# Altium footprint library 接线端子封装库.PcbLib: 73 footprints (part 1 of 5)
Each footprint in its own frame and in the unit in brackets; x right, y up, seen from the top. Pads: shape width x height; smd on the part's side, far side on the other; paste and mask are expansions set on the pad; w line width, h text height; cw(c..) or ccw(c..) is an arc to the next point about the centre after c.
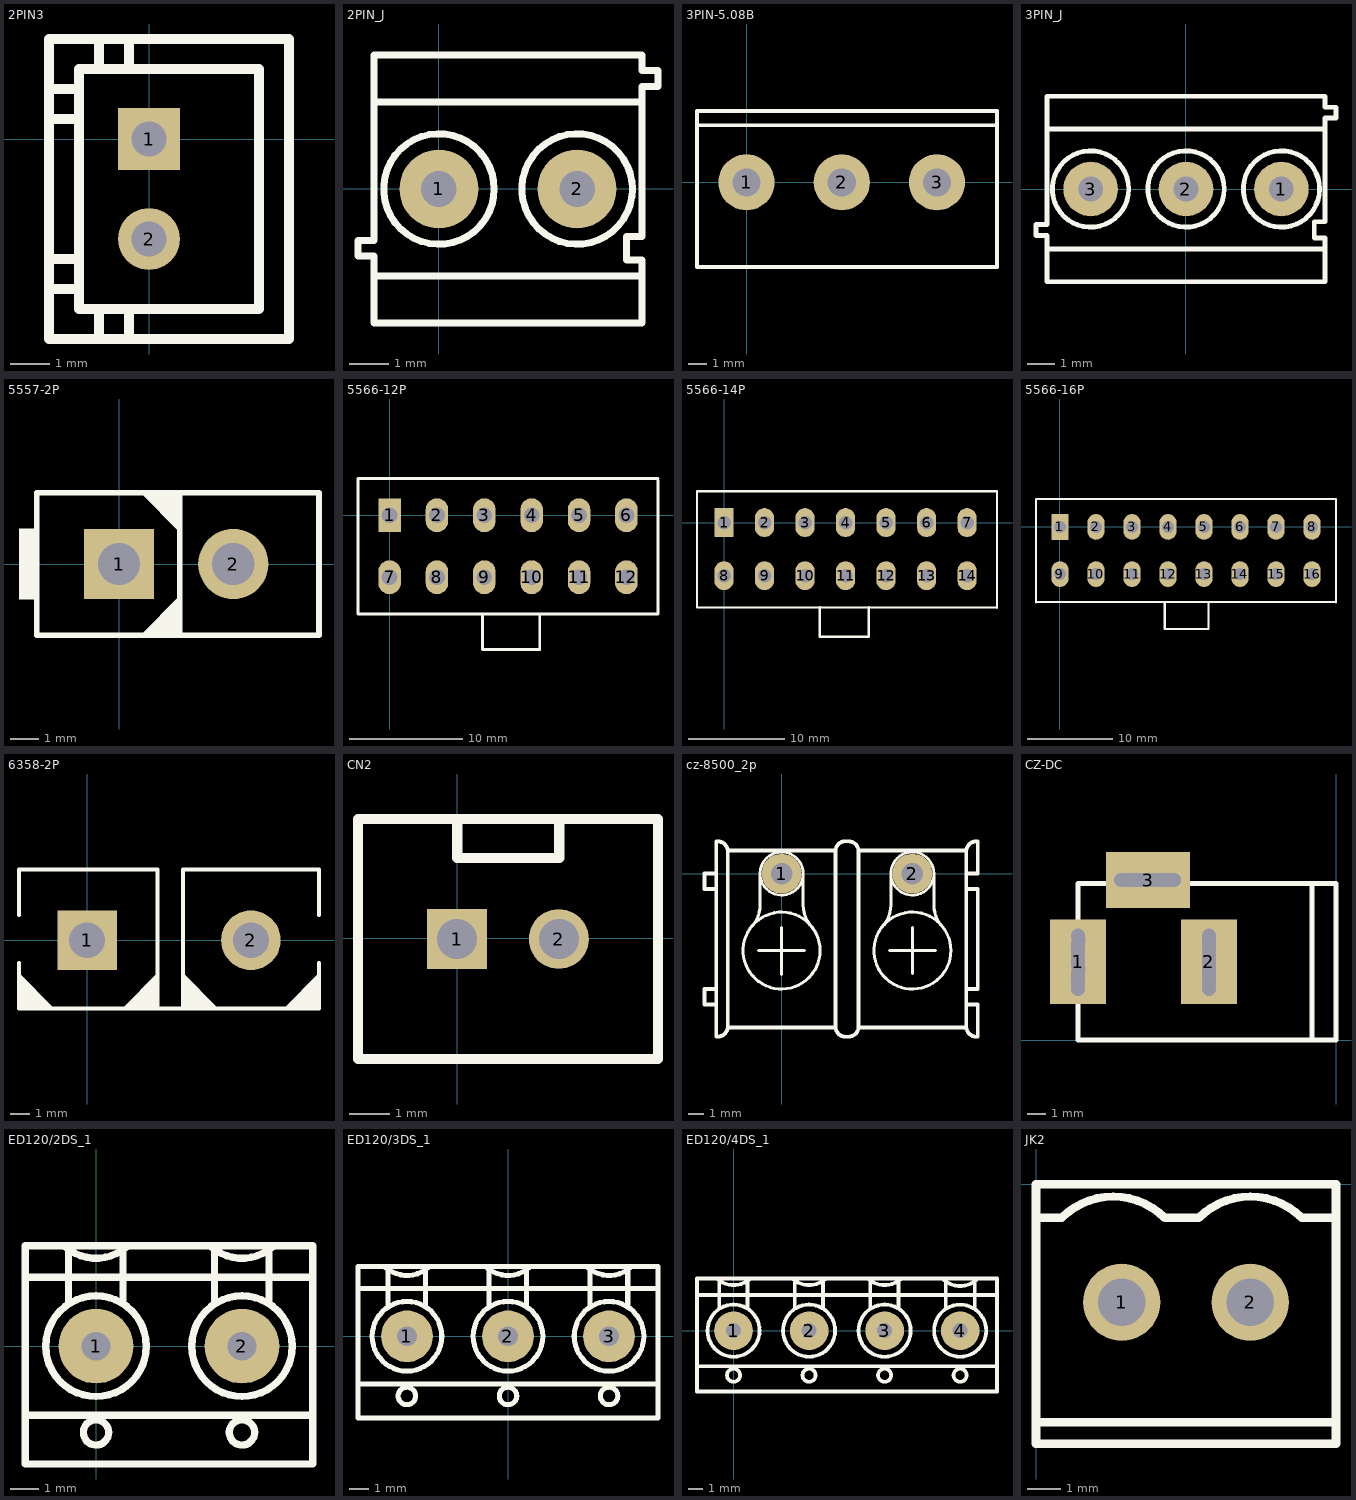
[diagram p0: the footprints below, top view; thin cyan lines are the x and y axes]

## 2PIN3 [mil]
pads (2):
  rect 62x62 hole 35: 1(0,0)
  round 62 hole 35: 2(0,-100)
Top Overlay:
  lines w10: -100,-150 -70,-150 ; -100,-120 -70,-120 ; -100,20 -70,20 ; -100,50 -70,50 ; -50,-200 -50,-170 ; -50,70 -50,100 ; -20,-200 -20,-170 ; -20,70 -20,100 ; -100,-200 -100,100 0,100 140,100 140,-200 -100,-200 ; -70,-170 -70,70 110,70 110,-170 -70,-170

## 2PIN_J [mm]
pads (2):
  round 2 hole 0.9: 1(0,0) 2(3.5,0)
Top Overlay:
  circle w0.178: c3.5,0 r1.4
  circle w0.178: c0,0 r1.4
  lines w0.178: 1.75,-3.4 -1.65,-3.4 ; 5.15,-2.2 -1.65,-2.2 ; 5.15,2.2 -1.65,2.2 ; -1.65,-3.4 -1.65,-2.2 ; -1.65,-3.4 5.15,-3.4 5.15,-1.8 4.75,-1.8 4.75,-1.2 5.15,-1.2 5.15,2.6 5.55,2.6 5.55,3 5.15,3 5.15,3.4 -1.65,3.4 -1.65,2.2 ; -1.65,-2.2 -1.65,-1.7 -2.05,-1.7 -2.05,-1.3 -1.65,-1.3 -1.65,2.2

## 3PIN-5.08B [mm]
pads (3):
  round 3 hole 1.5: 1(0,0) 2(5.08,0) 3(10.16,0)
Top Overlay:
  lines w0.2: -2.616,3.048 13.31,3.048 ; -2.642,-4.521 13.36,-4.521 13.36,3.81 -2.642,3.81 -2.642,-4.521
3D body: height 10, standoff -3, extent -2.466,-4.623 13.134,2.977

## 3PIN_J [mm]
pads (3):
  round 2 hole 0.9: 1(3.5,0) 2(0,0) 3(-3.5,0)
Top Overlay:
  circle w0.178: c3.5,0 r1.4
  circle w0.178: c0,0 r1.4
  circle w0.178: c-3.5,0 r1.4
  lines w0.178: -1.7,-3.4 -5.1,-3.4 ; 5.1,-2.2 -5.1,-2.2 ; 5.1,2.2 -5.1,2.2 ; -5.1,-3.4 -5.1,-2.2 ; -5.1,-3.4 5.1,-3.4 5.1,-1.8 4.7,-1.8 4.7,-1.2 5.1,-1.2 5.1,2.6 5.5,2.6 5.5,3 5.1,3 5.1,3.4 -5.1,3.4 -5.1,2.2 ; -5.1,-2.2 -5.1,-1.7 -5.5,-1.7 -5.5,-1.3 -5.1,-1.3 -5.1,2.2

## 5557-2P [mm] "pin 4.2mm"
pads (2):
  rect 2.5x2.5 hole 1.5: 1(0,0)
  round 2.5 hole 1.5: 2(4.064,0)
Top Overlay:
  rectangle: -3.556,-1.27 -2.921,1.27
  lines w0.2: 0.889,-2.54 2.159,-1.27 ; 0.889,2.54 2.159,1.27 ; 1.016,-2.54 1.143,-2.54 2.159,-1.524 ; 1.143,2.54 2.032,1.651 2.032,1.524 2.159,1.397 ; 1.27,-2.54 2.032,-1.778 ; 1.27,2.54 2.159,1.651 ; 1.524,-2.54 2.159,-1.905 ; 1.524,2.54 2.159,1.905 ; 1.778,-2.54 1.778,-2.413 2.159,-2.032 ; 1.778,2.54 2.159,2.159 ; 1.905,-2.54 1.905,-2.413 2.032,-2.286 ; 1.905,2.413 2.159,2.413 ; 2.032,-2.54 2.032,-2.413 2.159,-2.286 ; 2.159,-2.413 2.159,2.54 ; -2.921,-2.54 -2.921,2.54 7.112,2.54 7.112,-2.54 -2.921,-2.54

## 5566-12P [mm]
pads (12):
  rect 2x3 hole 1.4: 1(0,0)
  oval 2x3 hole 1.4: 2(4.2,0) 3(8.4,0) 4(12.6,0) 5(16.8,0) 6(21,0) 7(0,-5.5) 8(4.2,-5.5) 9(8.4,-5.5) 10(12.6,-5.5) 11(16.8,-5.5) 12(21,-5.5)
Top Overlay:
  lines w0.254: 8.232,-11.894 13.312,-11.894 ; 8.232,-11.846 8.232,-8.846 ; 13.312,-11.846 13.312,-8.846 ; 23.8,3.092 23.8,-8.75 -2.8,-8.75 -2.8,3.25 23.8,3.25
3D body: height 12.8, standoff -3.5, extent -3.059,-8.714 24.141,2.286

## 5566-14P [mm]
pads (14):
  rect 2x3 hole 1.4: 1(0,0)
  oval 2x3 hole 1.4: 2(4.2,0) 3(8.4,0) 4(12.6,0) 5(16.8,0) 6(21,0) 7(25.2,0) 8(0,-5.5) 9(4.2,-5.5) 10(8.4,-5.5) 11(12.6,-5.5) 12(16.8,-5.5) 13(21,-5.5) 14(25.2,-5.5)
Top Overlay:
  lines w0.254: 9.932,-11.836 15.012,-11.836 ; 9.932,-11.788 9.932,-8.788 ; 15.012,-11.788 15.012,-8.788 ; 28.3,-8.82 28.3,3.25 -2.8,3.25 -2.8,-8.804 28.3,-8.804
3D body: height 12.8, standoff -3.5, extent -3.127,-8.763 28.273,2.237

## 5566-16P [mm]
pads (16):
  rect 2x3 hole 1.4: 1(0,0)
  oval 2x3 hole 1.4: 2(4.2,0) 3(8.4,0) 4(12.6,0) 5(16.8,0) 6(21,0) 7(25.2,0) 8(29.4,0) 9(0,-5.5) 10(4.2,-5.5) 11(8.4,-5.5) 12(12.6,-5.5) 13(16.8,-5.5) 14(21,-5.5) 15(25.2,-5.5) 16(29.4,-5.5)
Top Overlay:
  lines w0.254: -2.8,-8.804 -2.8,3.25 32.2,3.25 32.2,-8.82 ; -2.8,-8.75 32.2,-8.75 ; 12.228,-11.894 17.308,-11.894 ; 12.228,-11.846 12.228,-8.846 ; 17.308,-11.846 17.308,-8.846
3D body: height 12.8, standoff -3.5, extent -2.941,-8.587 32.659,2.413

## 6358-2P [mm] "pin 8.4mm"
pads (2):
  rect 3x3 hole 1.8: 1(0,0)
  round 3 hole 1.8: 2(8.255,0)
Top Overlay:
  lines w0.2: -3.429,-3.175 -3.175,-3.429 ; -3.429,-3.048 -3.048,-3.429 ; -3.429,-2.794 -2.794,-3.429 ; -3.429,-2.286 -2.286,-3.429 ; -3.429,-2.032 -2.032,-3.429 ; -3.429,-1.778 -1.778,-3.429 ; -3.429,-1.143 -3.429,-3.429 11.684,-3.429 11.684,-1.143 ; -3.429,1.27 -3.429,3.556 3.556,3.556 3.556,-3.429 ; -3.365,-2.603 -2.54,-3.429 ; 1.905,-3.429 3.556,-1.778 ; 2.159,-3.429 3.556,-2.032 ; 2.413,-3.429 3.556,-2.286 ; 2.73,-3.365 3.556,-2.54 ; 2.921,-3.429 3.556,-2.794 ; 3.175,-3.429 3.556,-3.048 ; 3.302,-3.429 3.556,-3.175 ; 4.826,-3.429 4.826,3.556 ; 4.826,-3.175 5.08,-3.429 ; 4.826,-3.048 5.207,-3.429 ; 4.826,-2.794 5.461,-3.429 ; 4.826,-2.286 5.969,-3.429 ; 4.826,-2.032 6.223,-3.429 ; 4.826,-1.778 6.477,-3.429 ; 4.826,3.429 4.826,3.556 ; 4.889,-2.603 5.715,-3.429 ; 10.033,-3.429 11.684,-1.778 ; 10.287,-3.429 11.684,-2.032 ; 10.541,-3.429 11.684,-2.286 ; 10.858,-3.365 11.684,-2.54 ; 11.049,-3.429 11.684,-2.794 ; 11.303,-3.429 11.684,-3.048 ; 11.43,-3.429 11.684,-3.175 ; 11.684,1.27 11.684,3.556 4.826,3.556

## CN2 [mm]
pads (2):
  rect 1.5x1.5 hole 1: 1(-0.001,-0.018)
  round 1.5 hole 1: 2(2.539,-0.018)
Top Overlay:
  lines w0.254: -0.001,2.882 -0.001,2.007 2.549,2.007 2.549,2.982 ; -2.481,-3.018 -2.481,2.982 5.019,2.982 5.019,-3.018 -2.481,-3.018

## cz-8500_2p [mm]
pads (2):
  round 2.6 hole 1.4: 1(0,0) 2(8.5,0)
Top Overlay:
  circle w0.178: c0,0 r1.4
  circle w0.178: c8.5,0 r1.4
  circle w0.2: c0,-5 r2.5
  circle w0.2: c8.5,-5 r2.5
  lines w0.2: -2,-3.5 ccw(c-3.449,-2.051) -1.4,-2.051 -1.4,0 ; -1.5,-5 1.5,-5 ; 0,-6.55 0,-3.5 ; 1.4,0 1.4,-2.051 ccw(c3.449,-2.051) 2,-3.5 ; 6.5,-3.5 ccw(c5.051,-2.051) 7.1,-2.051 7.1,0 ; 7,-5 10,-5 ; 8.5,-6.5 8.5,-3.5 ; 9.9,0 9.9,-2.051 ccw(c11.949,-2.051) 10.5,-3.5
  lines w0.25: -4.25,-8.5 -5,-8.5 -5,-7.5 -4.25,-7.5 ; -4.25,-1 -5,-1 -5,0 -4.25,0 ; 4.2,2.1 ccw(c4.15,1.45) 3.5,1.5 ; 4.25,2.1 cw(c4.325,1.425) 5,1.5 ; 12,-8.5 12.75,-8.5 12.75,-10.6 cw(c12.675,-9.925) 12,-10 ; 12,-7.5 12.75,-7.5 12.75,-1 12,-1 ; 12,0 12.75,0 12.75,2.1 ccw(c12.675,1.425) 12,1.5 ; -3.5,-10 cw(c-4.175,-9.925) -4.25,-10.6 -4.25,2.1 cw(c-4.175,1.425) -3.5,1.5 ; -3.5,-10 3.5,-10 ; -3.5,-10 -3.5,1.5 ; -3.5,1.5 3.5,1.5 ; 3.5,-10 ccw(c4.175,-9.925) 4.25,-10.6 ccw(c4.325,-9.925) 5,-10 ; 3.5,-10 3.5,1.5 ; 5,-10 12,-10 ; 5,-10 5,1.5 ; 5,1.5 12,1.5 ; 12,-10 12,1.5

## CZ-DC [mil]
pads (47):
  rect 120x180 hole 30: 1(-551.57,167.32) 2(-271.65,167.32)
  rect 180x120 hole 30: 3(-401.97,342.13)
  round 30 hole 30: ""(-551.57,109.45) ""(-551.57,118.5) ""(-551.57,128.74) ""(-551.57,135.83) ""(-551.57,144.88) ""(-551.57,161.02) ""(-551.57,171.65) ""(-551.57,180.71) ""(-551.57,190.94) ""(-551.57,198.03) ""(-551.57,207.09) ""(-551.57,223.23) ""(-551.18,153.54) ""(-551.18,215.75) ""(-459.84,342.52) ""(-450.79,342.52) ""(-440.55,342.52) ""(-433.46,342.52) ""(-424.41,342.52) ""(-415.75,342.13) ""(-408.27,342.52) ""(-397.64,342.52) ""(-388.58,342.52) ""(-378.35,342.52) ""(-371.26,342.52) ""(-362.2,342.52) ""(-353.54,342.13) ""(-346.06,342.52) ""(-272.05,109.45) ""(-272.05,118.5) ""(-272.05,128.74) ""(-272.05,135.83) ""(-272.05,144.88) ""(-272.05,152.36) ""(-272.05,161.02) ""(-272.05,171.65) ""(-272.05,180.71) ""(-272.05,190.94) ""(-272.05,198.03) ""(-272.05,207.09) ""(-272.05,223.23) ""(-271.65,153.54) ""(-271.65,159.06) ""(-271.65,215.75)
Top Overlay:
  lines w10: -51.26,0 -51.26,334.65 ; -551.57,0 -551.57,334.65 0,334.65 0,0 -551.57,0

## ED120/2DS_1 [mm]
pads (2):
  round 2.6 hole 1: 1(0,0) 2(5.08,0)
Top Overlay:
  circle w0.254: c0,0 r1.75
  circle w0.254: c5.08,0 r1.75
  circle w0.254: c0,-3 r0.44
  circle w0.254: c5.08,-3 r0.44
  lines w0.254: -2.46,-2.4 7.54,-2.4 ; -2.46,2.4 7.54,2.4 ; -1.086,3.471 ccw(c0,4.7) 1.074,3.461 ; -0.96,1.5 -0.96,3.5 ; 0.94,1.5 0.94,3.5 ; 3.994,3.471 ccw(c5.08,4.7) 6.154,3.461 ; 4.12,1.5 4.12,3.5 ; 6.02,1.5 6.02,3.5 ; -2.46,-4.1 -2.46,3.5 7.54,3.5 7.54,-4.1 -2.46,-4.1

## ED120/3DS_1 [mm]
pads (3):
  round 2.6 hole 1: 1(-5.085,0) 2(-0.005,0) 3(5.075,0)
Top Overlay:
  circle w0.254: c5.075,-3 r0.44
  circle w0.254: c5.075,0 r1.75
  circle w0.254: c-0.005,-3 r0.44
  circle w0.254: c-5.085,-3 r0.44
  circle w0.254: c-0.005,0 r1.75
  circle w0.254: c-5.085,0 r1.75
  lines w0.254: -7.545,-2.4 7.535,-2.4 ; -7.545,2.4 7.535,2.4 ; -6.171,3.471 ccw(c-5.085,4.7) -4.011,3.461 ; -6.045,1.5 -6.045,3.5 ; -4.145,1.5 -4.145,3.5 ; -1.091,3.471 ccw(c-0.005,4.7) 1.069,3.461 ; -0.965,1.5 -0.965,3.5 ; 0.935,1.5 0.935,3.5 ; 3.989,3.471 ccw(c5.075,4.7) 6.149,3.461 ; 4.115,1.5 4.115,3.5 ; 6.015,1.5 6.015,3.5 ; 7.515,3.5 -7.545,3.5 -7.545,-4.1 7.535,-4.1 7.535,3.5

## ED120/4DS_1 [mm]
pads (4):
  round 2.6 hole 1: 1(0,0) 2(5.08,0) 3(10.16,0) 4(15.24,0)
Top Overlay:
  circle w0.25: c15.24,0 r1.75
  circle w0.254: c0,0 r1.75
  circle w0.254: c5.08,0 r1.75
  circle w0.254: c0,-3 r0.44
  circle w0.254: c5.08,-3 r0.44
  circle w0.254: c10.16,0 r1.75
  circle w0.254: c10.16,-3 r0.44
  circle w0.254: c15.24,-3 r0.44
  lines w0.25: 14.28,1.48 14.28,3.32 ; 16.22,1.47 16.22,3.3
  lines w0.254: -2.46,-2.4 17.72,-2.4 ; -2.46,2.4 17.72,2.4 ; -1.086,3.471 ccw(c0,4.7) 1.074,3.461 ; -0.96,1.5 -0.96,3.5 ; 0.94,1.5 0.94,3.5 ; 3.994,3.471 ccw(c5.08,4.7) 6.154,3.461 ; 4.12,1.5 4.12,3.5 ; 6.02,1.5 6.02,3.5 ; 9.074,3.471 ccw(c10.16,4.7) 11.234,3.461 ; 9.2,1.5 9.2,3.5 ; 11.1,1.5 11.1,3.5 ; 14.154,3.411 ccw(c15.24,4.64) 16.314,3.401 ; -2.46,-4.1 -2.46,3.5 17.72,3.5 17.72,-4.1 -2.46,-4.1

## JK2 [mil]
pads (2):
  round 90 hole 55: 1(100,-137.8) 2(250,-137.8)
Top Overlay:
  lines w9.84: 30,-39.37 cw(c90,-99.37) 150,-39.37 ; 190,-39.37 cw(c250,-99.37) 310,-39.37
  lines w10: 0,-277.8 350,-277.8 ; 0,-39.37 30,-39.37 ; 150,-39.37 190,-39.37 ; 310,-39.37 350,-39.37 ; 0,-303.15 350,-303.15 350,0 0,0 0,-303.15